# Altium schematic symbol library SCH - POWER - SWITCHMODE - TI TPS60151_DRV_6.SchLib: 1 symbol
Pins are listed as number, name and electrical type; pins without a type are passive.

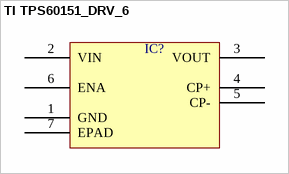
[diagram p0: symbol TI TPS60151_DRV_6]

## TI TPS60151_DRV_6
designator IC?  (value not drawn)
pins: 1 GND, 2 VIN, 3 VOUT, 4 CP+, 5 CP-, 6 ENA, 7 EPAD